# Altium footprint library USB A Vertical.PcbLib: 1 footprints
Each footprint in its own frame and in the unit in brackets; x right, y up, seen from the top. Pads: shape width x height; smd on the part's side, far side on the other; paste and mask are expansions set on the pad; w line width, h text height; cw(c..) or ccw(c..) is an arc to the next point about the centre after c.
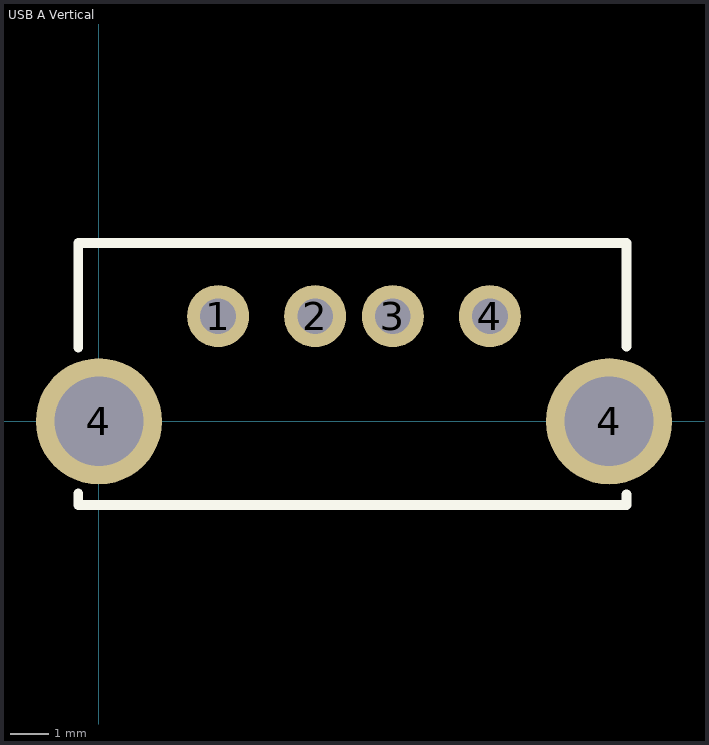
[diagram p0: the footprint, top view; thin cyan lines are the x and y axes]

## USB A Vertical [mm]
pads (6):
  round 1.6 hole 0.92: 1(3.07,2.71) 2(5.57,2.71) 3(7.57,2.71) 4(10.07,2.71)
  round 3.25 hole 2.3: 4(0,0) 4(13.14,0)
Top Overlay:
  lines w0.254: -0.533,-1.854 -0.533,-2.159 13.538,-2.159 ; -0.533,1.905 -0.533,4.597 13.589,4.597 13.589,1.93 ; 13.589,-2.159 13.589,-1.88
3D body: height 13.5, standoff -4.55, extent -1.047,-2.555 14.153,5.125